# Altium schematic symbol library NUCLEO-L432KC.SchLib: 1 symbol
Pins are listed as number, name and electrical type; pins without a type are passive.

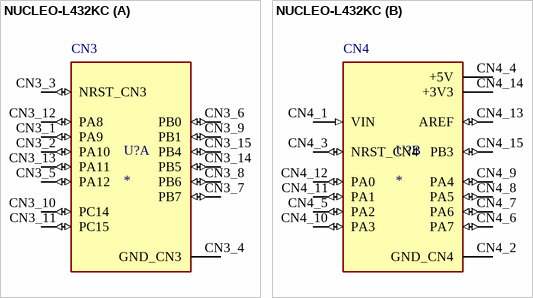
[diagram p0: symbol NUCLEO-L432KC]

## NUCLEO-L432KC
designator U?
STM32 Nucleo-32 development board with STM32L432KC MCU, supports Arduino connectivity; MP: NUCLEO-L432KC; Package: None; Price: None; Availability: Unavailable; Value: *
footprint MODULE_NUCLEO-L432KC
part A pins: CN3_1 PA9 (io), CN3_2 PA10 (io), CN3_3 NRST_CN3 (io), CN3_4 GND_CN3 (power), CN3_5 PA12 (io), CN3_6 PB0 (io), CN3_7 PB7 (io), CN3_8 PB6 (io), CN3_9 PB1 (io), CN3_10 PC14 (io), CN3_11 PC15 (io), CN3_12 PA8 (io), CN3_13 PA11 (io), CN3_14 PB5 (io), CN3_15 PB4 (io)
part B pins: CN4_1 VIN (in), CN4_2 GND_CN4 (power), CN4_3 NRST_CN4 (io), CN4_4 +5V (power), CN4_5 PA2 (io), CN4_6 PA7 (io), CN4_7 PA6 (io), CN4_8 PA5 (io), CN4_9 PA4 (io), CN4_10 PA3 (io), CN4_11 PA1 (io), CN4_12 PA0 (io), CN4_13 AREF (io), CN4_14 +3V3 (power), CN4_15 PB3 (io)
part A text: CN3
part B text: CN4